# Altium footprint library arduino_nano.PcbLib: 17 footprints (part 1 of 2)
Each footprint in its own frame and in the unit in brackets; x right, y up, seen from the top. Pads: shape width x height; smd on the part's side, far side on the other; paste and mask are expansions set on the pad; w line width, h text height; cw(c..) or ccw(c..) is an arc to the next point about the centre after c.
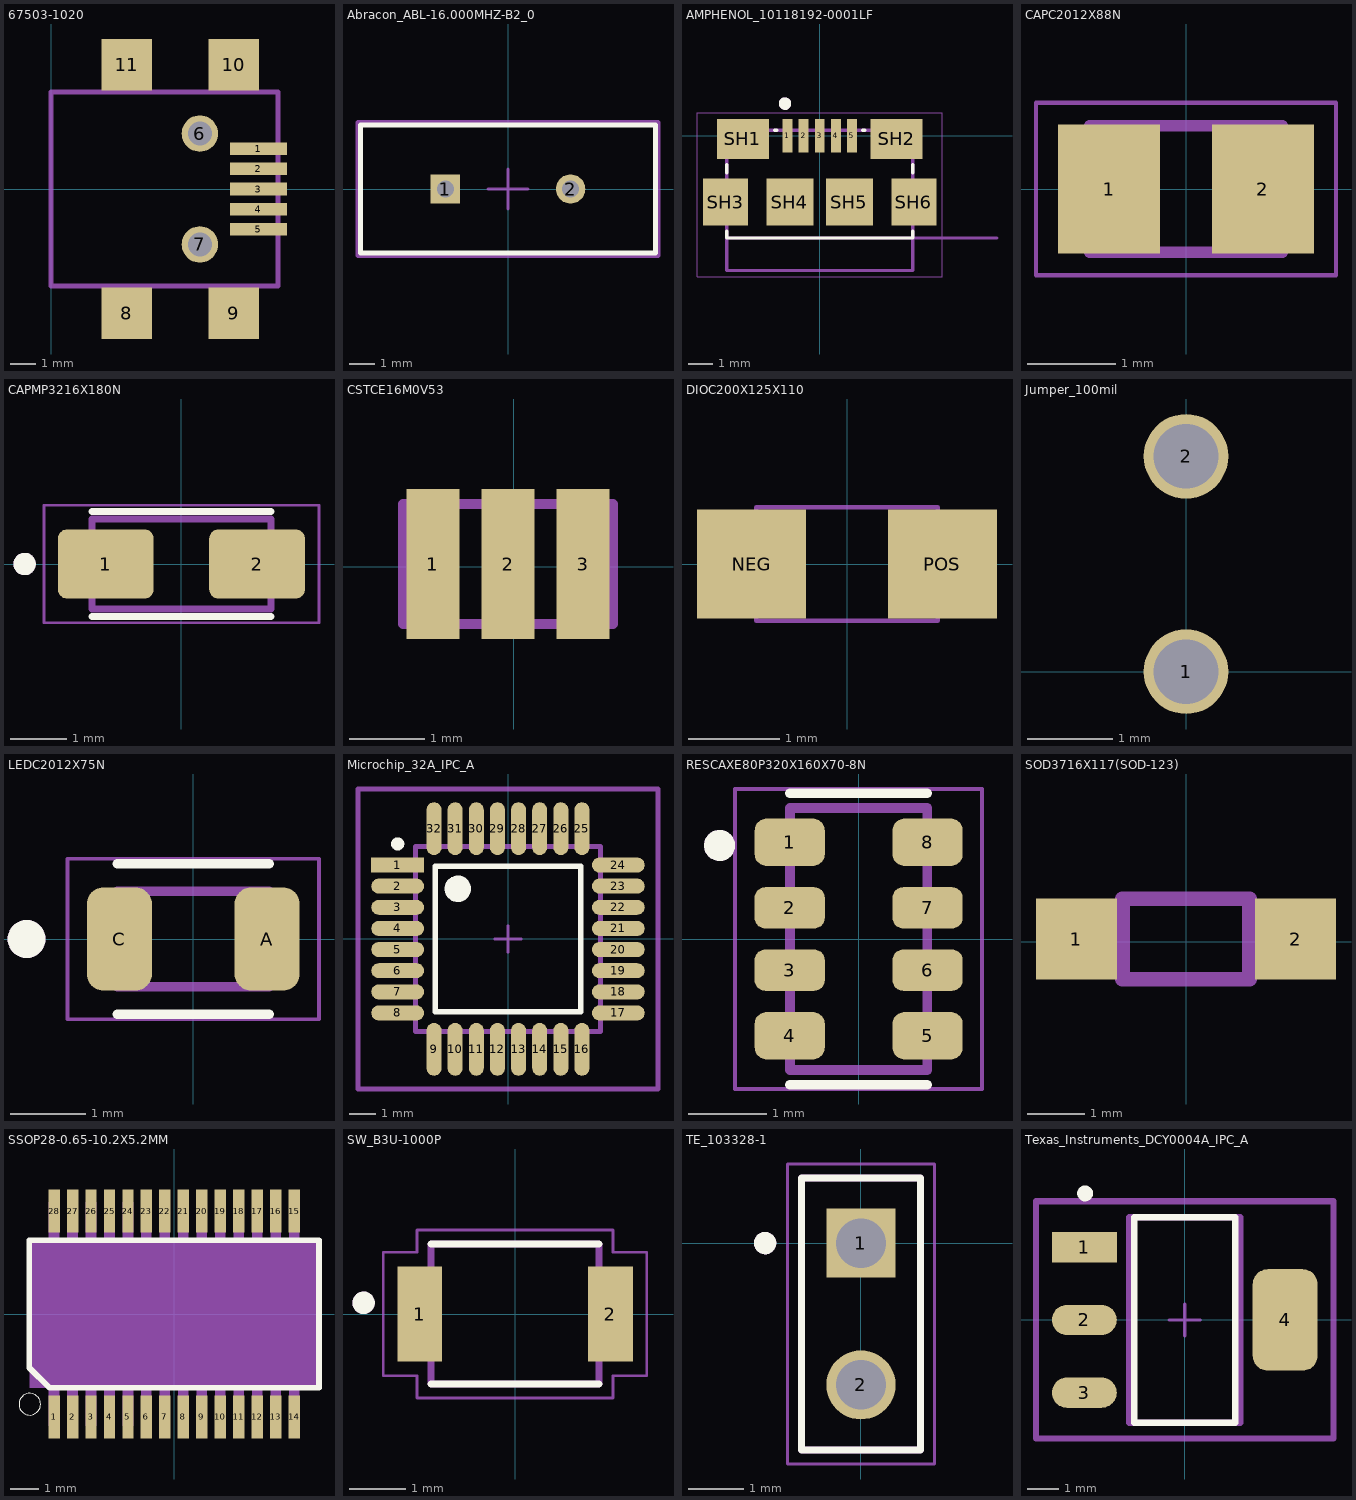
[diagram p0: the footprints below, top view; thin cyan lines are the x and y axes]

## 67503-1020 [mm]
pads (11):
  rect 2.25x0.5 smd: 1(8.225,1.6) 2(8.225,0.8) 3(8.225,0) 4(8.225,-0.8) 5(8.225,-1.6)
  round 1.45 hole 0.95: 6(5.9,2.2) 7(5.9,-2.2)
  rect 2x2.05 smd: 8(3,-4.925) 9(7.25,-4.925) 10(7.25,4.925) 11(3,4.925)
Mechanical 13:
  lines w0.2: 1.62,-3.85 0,-3.85 ; 1.62,3.85 0,3.85 ; 0,-3.85 9,-3.85 9,3.85 0,3.85 ; 0,-3.85 0,3.85 ; 0,-3.85 0,3.85
3D body "step_temp.STEP": height 2.8, standoff -0.17, extent 3.397,-3.95 9.017,3.95

## Abracon_ABL-16.000MHZ-B2_0 [mm]
pads (2):
  rect 1.15x1.15 hole 0.65 paste-1000 mask+0: 1(-2.44,0)
  round 1.15 hole 0.65 paste-1000 mask+0: 2(2.44,0)
Top Overlay:
  lines w0.2: -5.75,-2.5 -5.75,2.5 5.75,2.5 5.75,-2.5 -5.75,-2.5
Mechanical 10:
  lines w0.2: -5.85,-2.6 -5.85,2.6 5.85,2.6 5.85,-2.6 -5.85,-2.6
  text ".Designator" at 0,0 h1
Mechanical 12:
  lines w0.15: -5.75,-2.5 -5.75,2.5 5.75,2.5 5.75,-2.5 -5.75,-2.5
Mechanical 15:
  lines w0.1: -0.78,0 0.78,0 ; 0,-0.78 0,0.78
  lines w0.2: -5.85,-2.6 -5.85,2.6 5.85,2.6 5.85,-2.6 -5.85,-2.6
3D body "3dmodel.step": height 0.25, standoff 0, extent -5.85,-2.6 5.85,2.6

## AMPHENOL_10118192-0001LF [mm]
pads (11):
  rect 0.4x1.35 smd: 1(-1.3,0) 2(-0.65,0) 3(0,0) 4(0.65,0) 5(1.3,0)
  rect 2.1x1.6 smd: SH1(-3.1,-0.125) SH2(3.1,-0.125)
  rect 1.8x1.9 smd: SH3(-3.8,-2.675) SH6(3.8,-2.675)
  rect 1.9x1.9 smd: SH4(-1.2,-2.675) SH5(1.2,-2.675)
Top Overlay:
  circle w0.3: c-1.4,1.3 r0.1
  lines w0.127: -3.75,-3.85 -3.75,-4.125 3.75,-4.125 3.75,-3.85 ; -3.75,-1.5 -3.75,-1.15 ; -1.83,0.225 -1.72,0.225 ; 1.72,0.225 1.83,0.225 ; 3.75,-1.5 3.75,-1.15
Mechanical 13:
  circle w0.3: c-1.4,1.3 r0.1
  lines w0.127: 7.15,-4.125 3.75,-4.125 ; -3.75,-4.125 -3.75,-5.436 3.75,-5.436 3.75,-4.125 ; -3.75,-4.125 -3.75,0.225 3.75,0.225 3.75,-4.125 ; -3.75,-4.125 3.75,-4.125
  text "PCB Edge" at 5.205,-3.904 h0.81
Mechanical 15:
  lines w0.05: -4.95,-5.686 4.95,-5.686 4.95,0.925 -4.95,0.925 -4.95,-5.686
3D body "step_temp.STEP": height 2.7, standoff -0.27, extent -3.95,-2.41 3.95,3.21

## CAPC2012X88N [mm]
pads (2):
  rect 1.16x1.47 smd: 1(-0.875,0) 2(0.875,0)
Mechanical 13:
  lines w0.127: -1.1,-0.72 1.1,-0.72 1.1,0.72 -1.1,0.72 -1.1,-0.72
Mechanical 15:
  lines w0.05: -1.708,-0.983 1.708,-0.983 1.708,0.983 -1.708,0.983 -1.708,-0.983
3D body "step_temp.STEP": height 0.88, standoff 0, extent -1,-0.625 1,0.625

## CAPMP3216X180N [mm]
pads (2):
  rrect25% 1.71x1.23 smd: 1(-1.35,0) 2(1.35,0)
Top Overlay:
  circle w0.2: c-2.8,0 r0.1
  lines w0.127: -1.6,-0.935 1.6,-0.935 ; -1.6,0.935 1.6,0.935
Mechanical 13:
  circle w0.2: c-2.8,0 r0.1
  lines w0.127: -1.6,-0.8 -1.6,0.8 1.6,0.8 1.6,-0.8 -1.6,-0.8
Mechanical 15:
  lines w0.05: -2.455,-1.05 -2.455,1.05 2.455,1.05 2.455,-1.05 -2.455,-1.05
3D body "T491A475K010AT.STEP": height 1.8, standoff 0, extent -1.604,-0.8 1.596,0.8

## CSTCE16M0V53 [mm]
pads (3):
  rect 0.7x2 smd: 1(-1.074,0.037) 2(-0.074,0.037) 3(0.926,0.037)
Mechanical 13:
  lines w0.127: -1.474,-0.763 1.326,-0.763 1.326,0.837 -1.474,0.837 -1.474,-0.763
3D body "step_temp.STEP": height 1, standoff 0, extent -1.6,-0.65 1.6,0.65

## DIOC200X125X110 [mm]
pads (2):
  rect 1.2x1.2 smd: NEG(-1.05,0) POS(1.05,0)
Mechanical 13:
  lines w0.05: -1,-0.625 -1,0.625 1,0.625 1,-0.625 -1,-0.625
3D body "LTST-C170TBKT.stp": height 1.1, standoff 0, extent -1.016,-0.636 0.984,0.614

## Jumper_100mil [mm]
pads (2):
  round 1 hole 0.762: 1(0,0) 2(0,2.54)

## LEDC2012X75N [mm]
pads (2):
  rrect50% 0.86x1.36 smd: A(0.975,0) C(-0.975,0)
Top Overlay:
  circle w0.3: c-2.2,0 r0.1
  lines w0.127: -1,-0.995 1,-0.995 ; -1,0.995 1,0.995
Mechanical 13:
  circle w0.3: c-2.2,0 r0.1
  lines w0.127: -1,-0.63 -1,0.63 1,0.63 1,-0.63 -1,-0.63
Mechanical 15:
  lines w0.05: -1.66,-1.059 -1.66,1.059 1.66,1.059 1.66,-1.059 -1.66,-1.059
3D body "APT2012SRCPRV.stp": height 0.75, standoff -0.02, extent -1.02,-0.625 1.02,0.625

## Microchip_32A_IPC_A [mm]
pads (32):
  rect 2.004x0.566 smd paste+0 mask+0: 1(-4.175,2.8)
  rrect100% 2.004x0.566 smd paste+0 mask+0: 2(-4.175,2) 3(-4.175,1.2) 4(-4.175,0.4) 5(-4.175,-0.4) 6(-4.175,-1.2) 7(-4.175,-2) 8(-4.175,-2.8) 17(4.175,-2.8) 18(4.175,-2) 19(4.175,-1.2) 20(4.175,-0.4) 21(4.175,0.4) 22(4.175,1.2) 23(4.175,2) 24(4.175,2.8)
  rrect100% 0.566x2.004 smd paste+0 mask+0: 9(-2.8,-4.175) 10(-2,-4.175) 11(-1.2,-4.175) 12(-0.4,-4.175) 13(0.4,-4.175) 14(1.2,-4.175) 15(2,-4.175) 16(2.8,-4.175) 25(2.8,4.175) 26(2,4.175) 27(1.2,4.175) 28(0.4,4.175) 29(-0.4,4.175) 30(-1.2,4.175) 31(-2,4.175) 32(-2.8,4.175)
Top Overlay:
  circle w0.5: c-1.9,1.9 r0.25
  circle w0.25: c-4.175,3.6 r0.125
  lines w0.2: -2.75,-2.75 -2.75,2.75 2.75,2.75 2.75,-2.75 -2.75,-2.75
Mechanical 10:
  lines w0.2: -5.677,-5.677 -5.677,5.677 5.677,5.677 5.677,-5.677 -5.677,-5.677
  text ".Designator" at 0,0 h1
Mechanical 12:
  lines w0.2: -3.5,-3.5 -3.5,3.5 3.5,3.5 3.5,-3.5 -3.5,-3.5
Mechanical 15:
  lines w0.1: -0.5,0 0.5,0 ; 0,-0.5 0,0.5
  lines w0.2: -5.677,-5.677 -5.677,5.677 5.677,5.677 5.677,-5.677 -5.677,-5.677
3D body "IC_Microchip_ATMEGA168-20AU_eec.STEP": height 0.25, standoff 0, extent -5.677,-5.677 5.677,5.677

## RESCAXE80P320X160X70-8N [mm]
pads (8):
  rrect50% 0.9x0.61 smd: 1(-0.885,1.24) 4(-0.885,-1.24) 5(0.885,-1.24) 8(0.885,1.24)
  rrect50% 0.9x0.53 smd: 2(-0.885,0.4) 3(-0.885,-0.4) 6(0.885,-0.4) 7(0.885,0.4)
Top Overlay:
  circle w0.2: c-1.785,1.2 r0.1
  lines w0.127: -0.88,-1.87 0.88,-1.87 ; -0.88,1.87 0.88,1.87 -0.88,1.87
Mechanical 13:
  circle w0.2: c-1.785,1.2 r0.1
  lines w0.127: -0.88,1.68 0.88,1.68 ; -0.88,1.68 -0.88,-1.68 0.88,-1.68 0.88,1.68 ; -0.88,1.68 0.88,1.68
Mechanical 15:
  lines w0.05: -1.585,-1.925 -1.585,1.925 1.585,1.925 1.585,-1.925 -1.585,-1.925
3D body "Res_Yageo_YC164-JR-071KL_eec.STEP": height 0.7, standoff 0, extent -0.8,-1.6 0.8,1.6

## SOD3716X117(SOD-123) [mm]
pads (2):
  rect 1.4x1.4 smd: 1(-1.9,0.051) 2(1.9,0.051)
Mechanical 13:
  lines w0.254: -1.1,-0.649 1.1,-0.649 1.1,0.751 -1.1,0.751 -1.1,-0.649
3D body "MBR0520LT1G.stp": height 1.35, standoff 0, extent -1.855,-0.75 1.855,0.85

## SSOP28-0.65-10.2X5.2MM [mm]
pads (28):
  rect 0.4x1.5 smd: 1(-4.225,-3.625) 2(-3.575,-3.625) 3(-2.925,-3.625) 4(-2.275,-3.625) 5(-1.625,-3.625) 6(-0.975,-3.625) 7(-0.325,-3.625) 8(0.325,-3.625) 9(0.975,-3.625) 10(1.625,-3.625) 11(2.275,-3.625) 12(2.925,-3.625) 13(3.575,-3.625) 14(4.225,-3.625) 15(4.225,3.625) 16(3.575,3.625) 17(2.925,3.625) 18(2.275,3.625) 19(1.625,3.625) 20(0.975,3.625) 21(0.325,3.625) 22(-0.325,3.625) 23(-0.975,3.625) 24(-1.625,3.625) 25(-2.275,3.625) 26(-2.925,3.625) 27(-3.575,3.625) 28(-4.225,3.625)
Top Overlay:
  circle w0: c-5.08,-3.175 r0.381
  lines w0.203: -5.1,-1.89 -5.1,2.6 5.1,2.6 5.1,-2.6 -4.39,-2.6 -5.1,-1.89
Mechanical 13:
  region: -4.047,-3.939 -4.405,-3.939 -4.405,-2.642 -4.047,-2.642
  region: -3.397,-3.945 -3.76,-3.945 -3.76,-2.642 -3.397,-2.642
  region: -2.747,-3.939 -3.104,-3.939 -3.104,-2.642 -2.747,-2.642
  region: -2.097,-3.943 -2.456,-3.943 -2.456,-2.642 -2.097,-2.642
  region: -1.447,-3.939 -1.804,-3.939 -1.804,-2.642 -1.447,-2.642
  region: -0.797,-3.943 -1.155,-3.943 -1.155,-2.642 -0.797,-2.642
  region: -0.147,-3.945 -0.504,-3.945 -0.504,-2.642 -0.147,-2.642
  region: 0.503,-3.937 0.147,-3.937 0.147,-2.642 0.503,-2.642
  region: 1.153,-3.94 0.798,-3.94 0.798,-2.642 1.153,-2.642
  region: 1.803,-3.941 1.449,-3.941 1.449,-2.642 1.803,-2.642
  region: 2.453,-3.94 2.099,-3.94 2.099,-2.642 2.453,-2.642
  region: 3.103,-3.937 2.747,-3.937 2.747,-2.642 3.103,-2.642
  region: 3.753,-3.942 3.401,-3.942 3.401,-2.642 3.753,-2.642
  region: 4.403,-3.939 4.05,-3.939 4.05,-2.642 4.403,-2.642
  region: 4.403,2.644 4.051,2.644 4.051,3.937 4.403,3.937
  region: 3.753,2.646 3.404,2.646 3.404,3.937 3.753,3.937
  region: 3.103,2.647 2.753,2.647 2.753,3.937 3.103,3.937
  region: 2.453,2.645 2.1,2.645 2.1,3.937 2.453,3.937
  region: 1.803,2.645 1.449,2.645 1.449,3.937 1.803,3.937
  region: 1.153,2.643 0.798,2.643 0.798,3.937 1.153,3.937
  region: 0.503,2.644 0.147,2.644 0.147,3.937 0.503,3.937
  region: -0.147,2.644 -0.503,2.644 -0.503,3.937 -0.147,3.937
  region: -0.797,2.646 -1.155,2.646 -1.155,3.937 -0.797,3.937
  region: -1.447,2.646 -1.806,2.646 -1.806,3.937 -1.447,3.937
  region: -2.097,2.644 -2.455,2.644 -2.455,3.937 -2.097,3.937
  region: -2.747,2.646 -3.108,2.646 -3.108,3.937 -2.747,3.937
  region: -3.397,2.643 -3.755,2.643 -3.755,3.937 -3.397,3.937
  region: -4.047,2.644 -4.406,2.644 -4.406,3.937 -4.047,3.937
Mechanical 15:
  region: 5.08,-2.604 -5.088,-2.604 -5.088,2.6 5.08,2.6
3D body "IC_FTDI_FT232RL-REEL_eec.STEP": height 2, standoff 0, extent -5.1,-3.9 5.1,3.9

## SW_B3U-1000P [mm]
pads (2):
  rect 0.8x1.7 smd: 1(-1.7,0) 2(1.7,0)
Top Overlay:
  circle w0.2: c-2.7,0.2 r0.1
  lines w0.127: -1.5,-1.25 1.5,-1.25 ; -1.5,1.25 1.5,1.25
Mechanical 13:
  circle w0.2: c-2.7,0.2 r0.1
  lines w0.127: -1.5,-1.25 1.5,-1.25 1.5,1.25 -1.5,1.25 -1.5,-1.25
Mechanical 15:
  lines w0.05: -2.35,-1.1 -2.35,1.1 -1.75,1.1 -1.75,1.5 1.75,1.5 1.75,1.1 2.35,1.1 2.35,-1.1 1.75,-1.1 1.75,-1.5 -1.75,-1.5 -1.75,-1.1 -2.35,-1.1
3D body "step_temp.STEP": height 1.75, standoff 0, extent -2,-1.25 2,1.25

## TE_103328-1 [mm]
pads (2):
  rect 1.24x1.24 hole 0.89: 1(0,0)
  round 1.24 hole 0.89: 2(0,-2.54)
Top Overlay:
  circle w0.2: c-1.717,0 r0.1
  lines w0.127: -1.067,-3.708 -1.067,1.168 1.067,1.168 1.067,-3.708 -1.067,-3.708
Mechanical 13:
  circle w0.2: c-1.717,0 r0.1
  lines w0.127: -1.067,-3.708 -1.067,1.168 1.067,1.168 1.067,-3.708 ; -1.067,-3.708 1.067,-3.708 ; -1.067,-3.708 1.067,-3.708
Mechanical 15:
  lines w0.05: -1.317,-3.958 -1.317,1.418 1.317,1.418 1.317,-3.958 -1.317,-3.958
3D body "step_temp.STEP": height 3.05, standoff -8.13, extent -1.067,-3.708 1.067,1.168

## Texas_Instruments_DCY0004A_IPC_A [mm]
pads (4):
  rect 2.054x0.953 smd paste+0 mask+0: 1(-3.175,2.3)
  rrect100% 2.054x0.953 smd paste+0 mask+0: 2(-3.175,0) 3(-3.175,-2.3)
  rrect46% 2.054x3.212 smd paste+0 mask+0: 4(3.175,0)
Top Overlay:
  circle w0.25: c-3.15,4 r0.125
  lines w0.2: -1.6,-3.25 -1.6,3.25 1.6,3.25 1.6,-3.25 -1.6,-3.25
Mechanical 10:
  lines w0.2: -4.702,-3.75 -4.702,3.75 4.702,3.75 4.702,-3.75 -4.702,-3.75
  text ".Designator" at 0,0.188 h1
Mechanical 12:
  lines w0.2: -1.75,-3.25 -1.75,3.25 1.75,3.25 1.75,-3.25 -1.75,-3.25
Mechanical 15:
  lines w0.1: -0.5,0 0.5,0 ; 0,-0.5 0,0.5
  lines w0.2: -4.702,-3.75 -4.702,3.75 4.702,3.75 4.702,-3.75 -4.702,-3.75
3D body "IC_Texas_Instruments_UA78M05CDCYRG3_eec.STEP": height 0.25, standoff 0, extent -4.702,-3.75 4.702,3.75